# Altium footprint library CAPPM2012X120.PcbLib: 1 footprints
Each footprint in its own frame and in the unit in brackets; x right, y up, seen from the top. Pads: shape width x height; smd on the part's side, far side on the other; paste and mask are expansions set on the pad; w line width, h text height; cw(c..) or ccw(c..) is an arc to the next point about the centre after c.
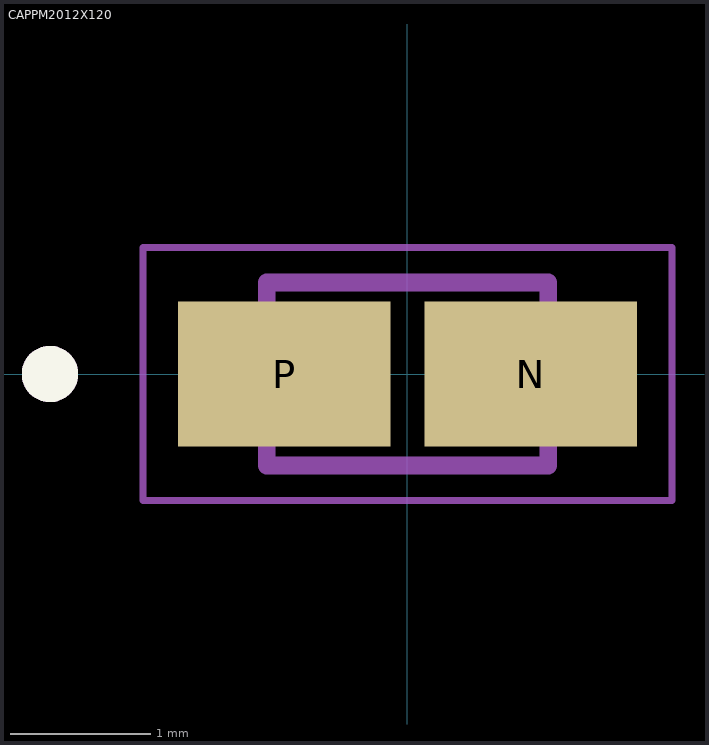
[diagram p0: the footprint, top view; thin cyan lines are the x and y axes]

## CAPPM2012X120 [mm]
pads (2):
  rect 1.51x1.03 smd: N(0.875,0) P(-0.875,0)
Top Overlay:
  circle w0.2: c-2.54,0 r0.1
Mechanical 13:
  circle w0.2: c-2.54,0 r0.1
  lines w0.127: -1,-0.65 1,-0.65 1,0.65 -1,0.65 -1,-0.65
Mechanical 15:
  lines w0.05: -1.88,-0.9 -1.88,0.9 1.88,0.9 1.88,-0.9 -1.88,-0.9